# EAGLE library part ATLAS_EZO_FLOW (library AtlasMeters)
Atlas EZO Universal Flow Meter Datasheet: https://www.atlas-scientific.com/_files/_datasheets/_circuit/flow_EZO_Datasheet.pdf
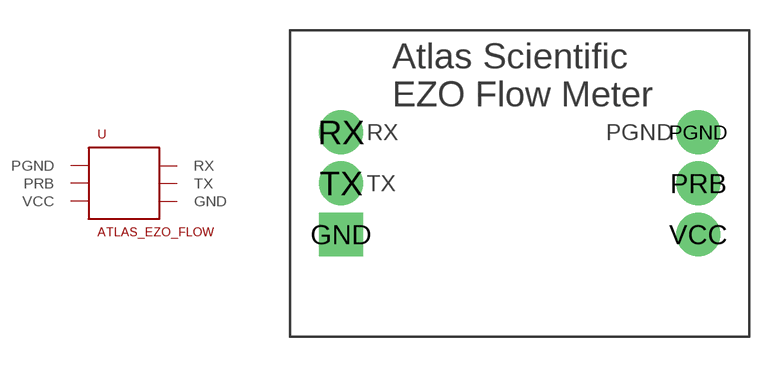
[diagram p0: symbol with the pads of ATLAS_EZO_FLOW; footprint ATLAS_EZO_FLOW]

Designator prefix -

## ATLAS_EZO_FLOW  [ATLAS_EZO_FLOW]
GND  GND  pwr
PGND  PGND
PRB  PRB
RX  RX  in
TX  TX  out
VCC  VCC  pwr

## Footprint ATLAS_EZO_FLOW (pad centres in mm)
Atlas EZO Universal Flow Totalizer Datasheet: https://www.atlas-scientific.com/_files/_datasheets/_circuit/flow_EZO_Datasheet.pdf
drill 0.8 pad 2.184 square: GND -7.62,-2.54
drill 0.8 pad 2.184: PGND 10.16,2.54; PRB 10.16,0; RX -7.62,2.54; TX -7.62,0; VCC 10.16,-2.54